# Altium integrated library Analog Devices RF IF Direct Digital Synthesis.IntLib: 76 symbols (part 9 of 9)
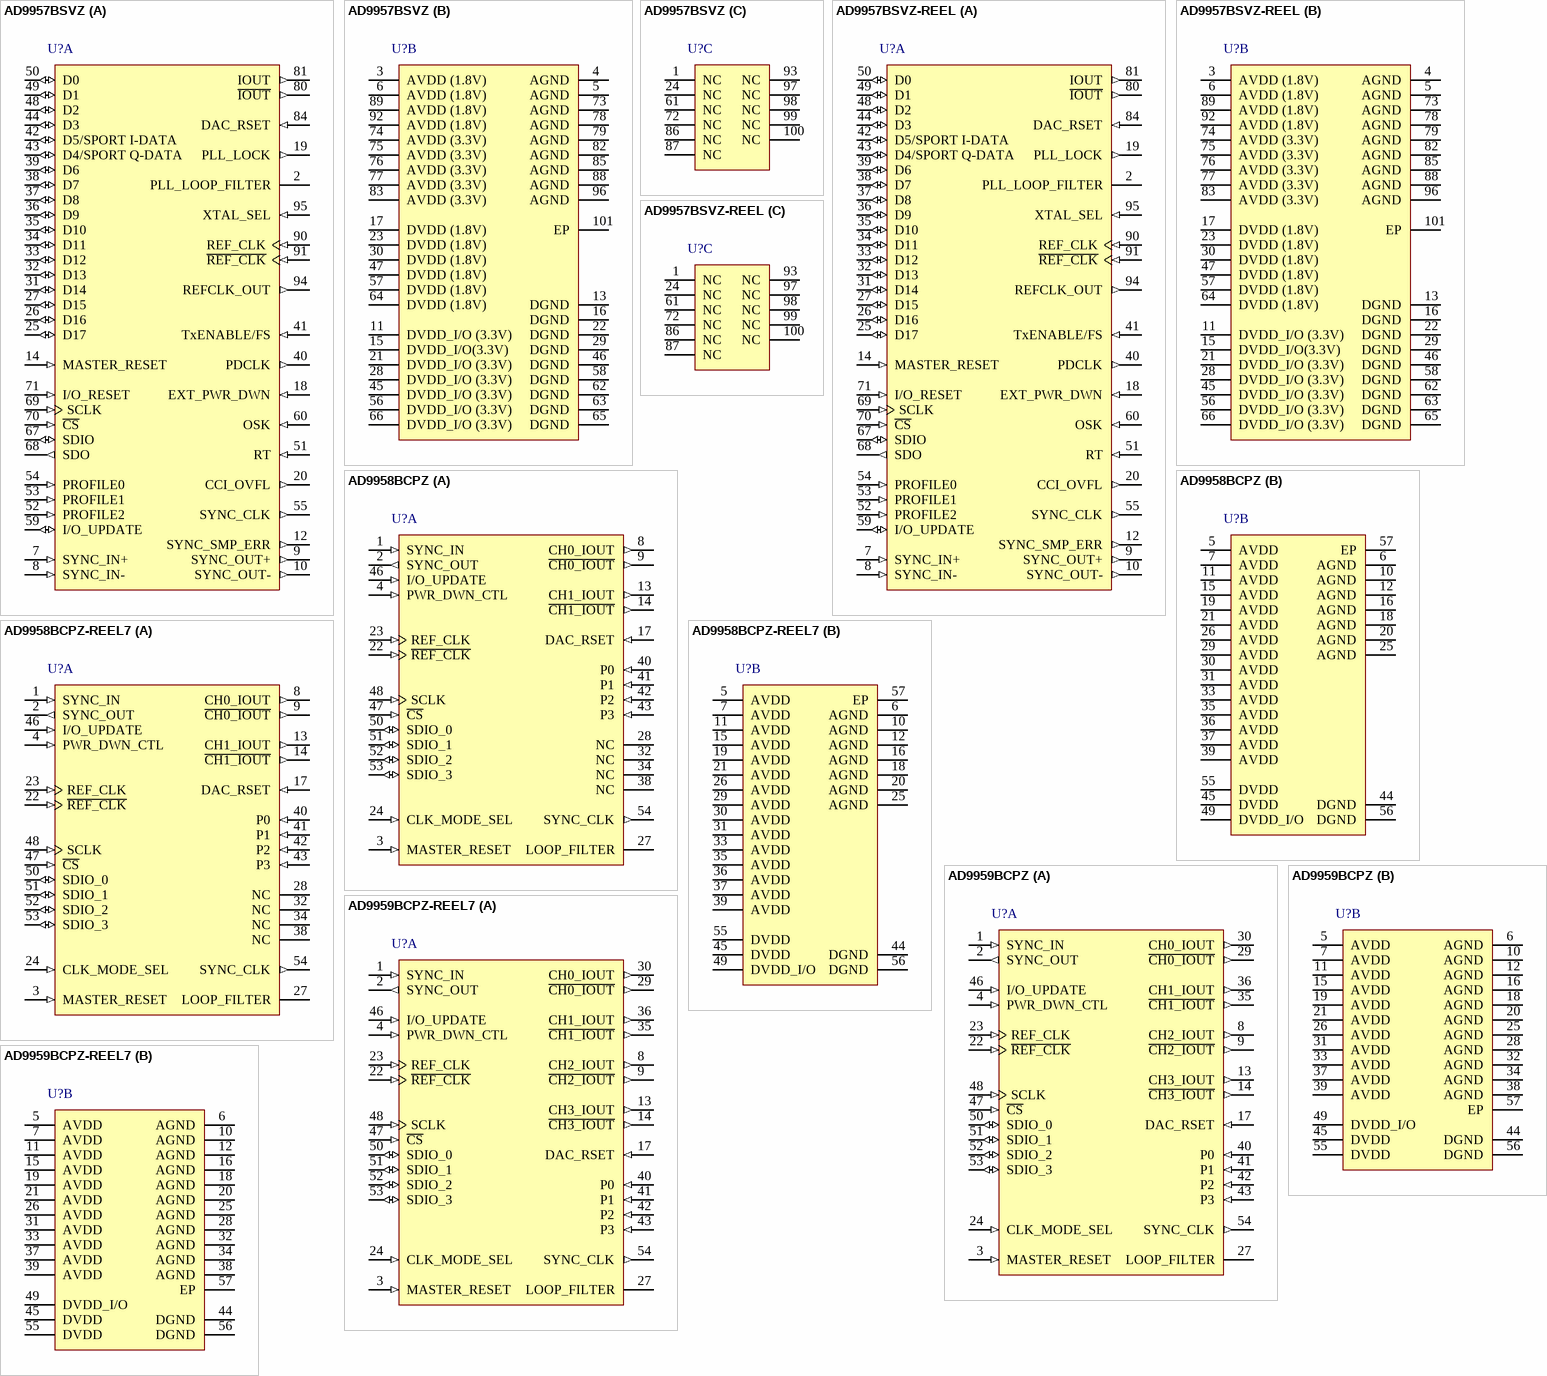
[diagram p13: symbols AD9957BSVZ to AD9959BCPZ-REEL7]

## AD9957BSVZ-REEL
designator U?
1 GSPS Quadrature Digital Upconverter with 18-Bit I/Q Data Path and 14-Bit DAC, Serial, SV-100-4, 1000 Reel, Pb-Free; Master fclk: 1GHz; Resolution (Bits): 14bit; Tuning Word Width (bits): 32bit; REFCLK Multiplier: Yes; Compliance Range (V): 500mV; FS Iout (mA nom): 20mA; I Supply total (max): 759mA; DatasheetVersion: Rev.B; PackageVersion: 043106-A; PackageReference: SV-100-4; PackageDescription: 100-Lead Thin Quad Flat Package, Exposed Pad [TQFP_EP]; I/O Interface: Serial; Code_JEDEC: MS-026-AED-HD; ComponentLink1Description: Manufacturer URL; ComponentLink1URL: www.analog.com; ComponentLink2Description: Datasheet; ComponentLink2URL: http://www.analog.com/static/imported-files/data_sheets/AD9957.pdf; ComponentLink3Description: Package Specification; ComponentLink3URL: http://www.analog.com/static/imported-files/packages/PKG_PDF/TQFP_ED(SV)/SV_100_4.pdf
footprint ADI-SV-100-4_N (Thin QFP, 100-Leads, Body 14x14mm, Pitch 0.5mm, Thermal Pad 5x5mm, IPC Medium Density)
footprint ADI-SV-100-4_L (Thin QFP, 100-Leads, Body 14x14mm, Pitch 0.5mm, Thermal Pad 5x5mm, IPC High Density)
footprint ADI-SV-100-4_M (Thin QFP, 100-Leads, Body 14x14mm, Pitch 0.5mm, Thermal Pad 5x5mm, IPC Low Density)
part A pins: 2 PLL_LOOP_FILTER "PLL-Loop Filter Compensation. See External PLL Loop Filter Components section.", 7 SYNC_IN+ (in) "Synchronization Signal, Digital Input (Rising Edge Active). Synchronization signal from external master to synchronize internal subclocks. [see datasheet]", 8 SYNC_IN- (in) "Synchronization Signal, Digital Input (Falling Edge Active). Synchronization signal from external master to synchronize internal subclocks. [see datasheet]", 9 SYNC_OUT+ (out) "Synchronization Signal, Digital Output (Rising Edge Active). Synchronization signal from internal device subclocks to synchronize external slave devices. [see datasheet]", 10 SYNC_OUT- (out) "Synchronization Signal, Digital Output (Falling Edge Active). Synchronization signal from internal device subclocks to synchronize external slave devices. [see datasheet]", 12 SYNC_SMP_ERR (out) "Synchronization Sample Error, Digital Output (Active High). A high on this pin indicates that the AD9957 did not receive a valid sync signal on SYNC_IN+/SYNC_IN-. [see datasheet]", 14 MASTER_RESET (in) "Master Reset, Digital Input (Active High). This pin clears all memory elements and sets registers to default values.", 18 EXT_PWR_DWN (in) "External Power-Down, Digital Input (Active High). A high level on this pin initiates the currently programmed power-down mode. See the Power-Down Control section for  further details. [see datasheet]", 19 PLL_LOCK (out) "PLL Lock, Digital Output (Active High). A high on this pin indicates that the clock multiplier PLL has acquired lock to the reference clock input.", 20 CCI_OVFL (out) "CCI Overflow Digital Output, Active High. A high on this pin indicates a CCI filter overflow. This pin remains high until the CCI overflow condition is cleared.", 25 D17 (io) "Parallel Data Input Bus (Active High). These pins provide the interleaved, 18-bit, digital, I and Q vectors for the modulator to upconvert. [see datasheet]", 26 D16 (io) "Parallel Data Input Bus (Active High). These pins provide the interleaved, 18-bit, digital, I and Q vectors for the modulator to upconvert. [see datasheet]", 27 D15 (io) "Parallel Data Input Bus (Active High). These pins provide the interleaved, 18-bit, digital, I and Q vectors for the modulator to upconvert. [see datasheet]", 31 D14 (io) "Parallel Data Input Bus (Active High). These pins provide the interleaved, 18-bit, digital, I and Q vectors for the modulator to upconvert. [see datasheet]", 32 D13 (io) "Parallel Data Input Bus (Active High). These pins provide the interleaved, 18-bit, digital, I and Q vectors for the modulator to upconvert. [see datasheet]", 33 D12 (io) "Parallel Data Input Bus (Active High). These pins provide the interleaved, 18-bit, digital, I and Q vectors for the modulator to upconvert. [see datasheet]", 34 D11 (io) "Parallel Data Input Bus (Active High). These pins provide the interleaved, 18-bit, digital, I and Q vectors for the modulator to upconvert. [see datasheet]", 35 D10 (io) "Parallel Data Input Bus (Active High). These pins provide the interleaved, 18-bit, digital, I and Q vectors for the modulator to upconvert. [see datasheet]", 36 D9 (io) "Parallel Data Input Bus (Active High). These pins provide the interleaved, 18-bit, digital, I and Q vectors for the modulator to upconvert. [see datasheet]", 37 D8 (io) "Parallel Data Input Bus (Active High). These pins provide the interleaved, 18-bit, digital, I and Q vectors for the modulator to upconvert. [see datasheet]", 38 D7 (io) "Parallel Data Input Bus (Active High). These pins provide the interleaved, 18-bit, digital, I and Q vectors for the modulator to upconvert. [see datasheet]", 39 D6 (io) "Parallel Data Input Bus (Active High). These pins provide the interleaved, 18-bit, digital, I and Q vectors for the modulator to upconvert. [see datasheet]", 40 PDCLK (out) "Parallel Data Clock, Digital Output (Clock). See the Signal Processing section for details.", 41 TxENABLE/FS (in) "Transmit Enable, Digital Input (Active High). See the Signal Processing section for details.FS Input. In Blackfin interface mode, this pin serves as the FS input to receive the RFS output signal from the Blackfin.", 42 D5/SPORT I-DATA (io) "Parallel Data Input Bus (Active High). These pins provide the interleaved, 18-bit, digital, I and Q vectors for the modulator to upconvert. [see datasheet]", 43 D4/SPORT Q-DATA (io) "Parallel Data Input Bus (Active High). These pins provide the interleaved, 18-bit, digital, I and Q vectors for the modulator to upconvert. [see datasheet]", 44 D3 (io) "Parallel Data Input Bus (Active High). These pins provide the interleaved, 18-bit, digital, I and Q vectors for the modulator to upconvert. [see datasheet]", 48 D2 (io) "Parallel Data Input Bus (Active High). These pins provide the interleaved, 18-bit, digital, I and Q vectors for the modulator to upconvert. [see datasheet]", 49 D1 (io) "Parallel Data Input Bus (Active High). These pins provide the interleaved, 18-bit, digital, I and Q vectors for the modulator to upconvert. [see datasheet]", 50 D0 (io) "Parallel Data Input Bus (Active High). These pins provide the interleaved, 18-bit, digital, I and Q vectors for the modulator to upconvert. [see datasheet]", 51 RT (in) "RAM Trigger, Digital Input (Active High). This pin provides control for the RAM amplitude scaling function. When this function is engaged, a high sweeps the amplitude from the beginning RAM address to the end. [see datasheet]", 52 PROFILE2 (in) "Profile Select Pins, Digital Inputs (Active High). These pins select one of eight phase/frequency profiles for the DDS core (single tone or carrier tone). [see datasheet]", 53 PROFILE1 (in) "Profile Select Pins, Digital Inputs (Active High). These pins select one of eight phase/frequency profiles for the DDS core (single tone or carrier tone). [see datasheet]", 54 PROFILE0 (in) "Profile Select Pins, Digital Inputs (Active High). These pins select one of eight phase/frequency profiles for the DDS core (single tone or carrier tone). [see datasheet]", 55 SYNC_CLK (out) "Output System Clock/4, Digital Output (Clock). The I/O_UPDATE and PROFILE<2:0> pins should be set up to the rising edge of this signal.", 59 I/O_UPDATE (io) "Input/Output Update; Digital Input Or Output (Active High) Depending on the Internal I/O Update Active Bit. [see datasheet]", 60 OSK (in) "Output Shift Keying, Digital Input (Active High). When using OSK (manual or automatic), this pin controls the OSK function. See the Output Shift Keying (OSK) section of the data sheet for details. [see datasheet]", 67 SDIO (io) "Serial Data Input/Output, Digital Input/Output (Active High). This pin can be either unidirectional or bidirectional (default), depending on configuration settings. [see datasheet]", 68 SDO (out) "Serial Data Output, Digital Output (Active High). This pin is only active in unidirectional serial data mode. In this mode, it functions as the output. [see datasheet]", 69 SCLK (in) "Serial Data Clock. Digital clock (rising edge on write, falling edge on read). This pin provides the serial data clock for the control data path. [see datasheet]", 70 ~{CS} (in) "Chip Select, Digital Input (Active Low). Bringing this pin low enables the AD9957 to detect serial clock rising/falling edges. [see datasheet]", 71 I/O_RESET (in) "Input/Output Reset, Digital Input (Active High). Rather than resetting the entire device during a failed communication cycle, when brought high, this pin resets the state machine of the serial port controller and clears any I/O buffers that have been wri", 80 ~{IOUT} (out) "Open-Source DAC Complementary Output Source. Analog output, current mode. Connect through 50 ? to AGND.", 81 IOUT (out) "Open-Source DAC Output Source. Analog output, current mode. Connect through 50 ? to AGND.", 84 DAC_RSET (in) "Analog Reference Pin. This pin programs the DAC output full-scale reference current. Attach a 10 k? resistor to AGND.", 90 REF_CLK (in) "Reference Clock Input. Analog input. See the REFCLK Overview section for more details.", 91 ~{REF_CLK} (in) "Complementary Reference Clock Input. Analog input. See the REFCLK Overview section for more details.", 94 REFCLK_OUT (out) "Reference Clock Output. Analog output. See the REFCLK Overview section for more details.", 95 XTAL_SEL (in) "Crystal Select (1.8 V Logic). Analog input (active high). Driving the XTAL_SEL pin high enables the internal oscillator to be used with a crystal resonator. If unused, connect it to AGND."
part B pins: 3 AVDD (1.8V) (power) "Analog Core VDD. 1.8 V analog supplies.", 4 AGND (power) "Analog Ground.", 5 AGND (power) "Analog Ground.", 6 AVDD (1.8V) (power) "Analog Core VDD. 1.8 V analog supplies.", 11 DVDD_I/O (3.3V) (power) "Digital Input/Output VDD. 3.3 V digital supplies.", 13 DGND (power) "Digital Ground.", 15 DVDD_I/O(3.3V) (power) "Digital Input/Output VDD. 3.3 V digital supplies.", 16 DGND (power) "Digital Ground.", 17 DVDD (1.8V) (power) "Digital Core VDD. 1.8 V digital supplies.", 21 DVDD_I/O (3.3V) (power) "Digital Input/Output VDD. 3.3 V digital supplies.", 22 DGND (power) "Digital Ground.", 23 DVDD (1.8V) (power) "Digital Core VDD. 1.8 V digital supplies.", 28 DVDD_I/O (3.3V) (power) "Digital Input/Output VDD. 3.3 V digital supplies.", 29 DGND (power) "Digital Ground.", 30 DVDD (1.8V) (power) "Digital Core VDD. 1.8 V digital supplies.", 45 DVDD_I/O (3.3V) (power) "Digital Input/Output VDD. 3.3 V digital supplies.", 46 DGND (power) "Digital Ground.", 47 DVDD (1.8V) (power) "Digital Core VDD. 1.8 V digital supplies.", 56 DVDD_I/O (3.3V) (power) "Digital Input/Output VDD. 3.3 V digital supplies.", 57 DVDD (1.8V) (power) "Digital Core VDD. 1.8 V digital supplies.", 58 DGND (power) "Digital Ground.", 62 DGND (power) "Digital Ground.", 63 DGND (power) "Digital Ground.", 64 DVDD (1.8V) (power) "Digital Core VDD. 1.8 V digital supplies.", 65 DGND (power) "Digital Ground.", 66 DVDD_I/O (3.3V) (power) "Digital Input/Output VDD. 3.3 V digital supplies.", 73 AGND (power) "Analog Ground.", 74 AVDD (3.3V) (power) "Analog DAC VDD. 3.3 V analog supplies.", 75 AVDD (3.3V) (power) "Analog DAC VDD. 3.3 V analog supplies.", 76 AVDD (3.3V) (power) "Analog DAC VDD. 3.3 V analog supplies.", 77 AVDD (3.3V) (power) "Analog DAC VDD. 3.3 V analog supplies.", 78 AGND (power) "Analog Ground.", 79 AGND (power) "Analog Ground.", 82 AGND (power) "Analog Ground.", 83 AVDD (3.3V) (power) "Analog DAC VDD. 3.3 V analog supplies.", 85 AGND (power) "Analog Ground.", 88 AGND (power) "Analog Ground.", 89 AVDD (1.8V) (power) "Analog Core VDD. 1.8 V analog supplies.", 92 AVDD (1.8V) (power) "Analog Core VDD. 1.8 V analog supplies.", 96 AGND (power) "Analog Ground.", 101 EP (power) "The EPAD should be soldered to ground."
part C pins: 1 NC "Not Connected. Allow device pin to float.", 24 NC "Not Connected. Allow device pin to float.", 61 NC "Not Connected. Allow device pin to float.", 72 NC "Not Connected. Allow device pin to float.", 86 NC "Not Connected. Allow device pin to float.", 87 NC "Not Connected. Allow device pin to float.", 93 NC "Not Connected. Allow device pin to float.", 97 NC "Not Connected. Allow device pin to float.", 98 NC "Not Connected. Allow device pin to float.", 99 NC "Not Connected. Allow device pin to float.", 100 NC "Not Connected. Allow device pin to float."

## AD9958BCPZ
designator U?
2-Channel, 500 MSPS DDS with 10-Bit DACs, Serial, CP-56-1, 260 Tray, Pb-Free; Master fclk: 500MHz; Resolution (Bits): 10bit; Tuning Word Width (bits): 32bit; REFCLK Multiplier: Yes; Compliance Range (V): 2.3V; FS Iout (mA nom): 10mA; I Supply total (max): 105mA; DatasheetVersion: Rev. A; PackageVersion: 112805-0; PackageReference: CP-56-1; PackageDescription: 56-Lead Lead Frame Chip Scale Package [LFCSP_VQ]; I/O Interface: Serial; Code_JEDEC: MO-220-VLLD-2; ComponentLink1Description: Manufacturer URL; ComponentLink1URL: www.analog.com; ComponentLink2Description: Datasheet; ComponentLink2URL: http://www.analog.com/static/imported-files/data_sheets/AD9958.pdf; ComponentLink3Description: Package Specification; ComponentLink3URL: http://www.analog.com/static/imported-files/packages/32698137492825CP_56_1.pdf
footprint ADI-CP-56-1_N (QFN, 56-Leads, Body 8x8mm, Pitch 0.5mm, Thermal Pad 6.1x6.1mm, IPC Medium Density)
footprint ADI-CP-56-1_L (QFN, 56-Leads, Body 8x8mm, Pitch 0.5mm, Thermal Pad 6.1x6.1mm, IPC High Density)
footprint ADI-CP-56-1_M (QFN, 56-Leads, Body 8x8mm, Pitch 0.5mm, Thermal Pad 6.1x6.1mm, IPC Low Density)
part A pins: 1 SYNC_IN (in) "Synchronizes Multiple AD9911 Devices. Connects to the SYNC_OUT pin of the master AD9911 device.", 2 SYNC_OUT (out) "Synchronizes Multiple AD9911 Devices. Connects to the SYNC_IN pin of the slave AD9911 device.", 3 MASTER_RESET (in) "Active High Reset Pin. Asserting this pin forces the internal registers to the default state shown in the Register Map section.", 4 PWR_DWN_CTL (in) "External Power-Down Control. See the Power Down Functions section for details.", 8 CH0_IOUT (out) "True DAC Output. Terminates into AVDD.", 9 ~{CH0_IOUT} (out) "Complementary DAC Output. Terminates into AVDD.", 13 CH1_IOUT (out) "True DAC Output. Terminates into AVDD.", 14 ~{CH1_IOUT} (out) "Complementary DAC Output. Terminates into AVDD.", 17 DAC_RSET (in) "Establishes the Reference Current for the DAC. A 1.91 k ohm resistor (nominal) is connected from Pin 17 to AGND.", 22 ~{REF_CLK} (in) "Complementary Reference Clock/Oscillator Input. When the REF_CLK is operated in single-ended mode, this pin should be decoupled to AVDD or AGND with a  0.1 uF capacitor.", 23 REF_CLK (in) "Reference Clock/Oscillator Input. When the REF_CLK operates in single-ended mode, Pin 23 is the input. See the Modes of Operation section for the reference clock configuration.", 24 CLK_MODE_SEL (in) "Control Pin for the Oscillator. CAUTION: Do not drive this pin beyond 1.8 V. When high (1.8 V), the oscillator is enabled to accept a crystal as the REF_CLK source. [see datasheet]", 27 LOOP_FILTER "Connects to the External Zero Compensation Network of the PLL Loop Filter. Typically, the network consists of a 0  ohm resistor in series with a 680 pF capacitor tied to AVDD.", 28 NC "No Connection. Analog Devices recommends leaving these pins floating.", 32 NC "No Connection. Analog Devices recommends leaving these pins floating.", 34 NC "No Connection.", 38 NC "No Connection.", 40 P0 (in) "These data pins are used for modulation (FSK, PSK, ASK), start/stop for the sweep accumulator, and ramping up/down the output amplitude. [see datasheet]", 41 P1 (in) "These data pins are used for modulation (FSK, PSK, ASK), start/stop for the sweep accumulator, and ramping up/down the output amplitude. [see datasheet]", 42 P2 (in) "These data pins are used for modulation (FSK, PSK, ASK), start/stop for the sweep accumulator, and ramping up/down the output amplitude. [see datasheet]", 43 P3 (in) "These data pins are used for modulation (FSK, PSK, ASK), start/stop for the sweep accumulator, and ramping up/down the output amplitude. [see datasheet]", 46 I/O_UPDATE (in) "A rising edge triggers data transfer from the I/O port buffer to active registers. I/O_UPDATE is synchronous to the SYNC_CLK (Pin 54). [see datasheet]", 47 ~{CS} (in) "The active low chip select allows multiple devices to share a common I/O bus (SPI).", 48 SCLK (in) "Data Clock for I/O Operations. Data bits are written on the rising edge of SCLK and read on the falling edge of SCLK.", 50 SDIO_0 (io) "Data pin SDIO_0 is dedicated to the I/O port only.", 51 SDIO_1 (io) "Data pins SDIO_1:3 can be used for the I/O port or to initiate a ramp up/ramp down (RU/RD) of the DAC output amplitude.", 52 SDIO_2 (io) "Data pins SDIO_1:3 can be used for the I/O port or to initiate a ramp up/ramp down (RU/RD) of the DAC output amplitude.", 53 SDIO_3 (io) "Data pins SDIO_1:3 can be used for the I/O port or to initiate a ramp up/ramp down (RU/RD) of the DAC output amplitude.", 54 SYNC_CLK (out) "The SYNC_CLK, which runs at 1/4 the system clock rate, can be disabled. I/O_UPDATE and profile changes (Pin 40 to Pin 43) are synchronous to the SYNC_CLK. [see datasheet]"
part B pins: 5 AVDD (power) "Analog Power Supply Pins (1.8 V).", 6 AGND (power) "Analog Ground Pins.", 7 AVDD (power) "Analog Power Supply Pins (1.8 V).", 10 AGND (power) "Analog Ground Pins.", 11 AVDD (power) "Analog Power Supply Pins (1.8 V).", 12 AGND (power) "Analog Ground Pins.", 15 AVDD (power) "Analog Power Supply Pins (1.8 V).", 16 AGND (power) "Analog Ground Pins.", 18 AGND (power) "Analog Ground Pins.", 19 AVDD (power) "Analog Power Supply Pins (1.8 V).", 20 AGND (power) "Analog Ground Pins.", 21 AVDD (power) "Analog Power Supply Pins (1.8 V).", 25 AGND (power) "Analog Ground Pins.", 26 AVDD (power) "Analog Power Supply Pins (1.8 V).", 29 AVDD (power) "Analog Power Supply Pins (1.8 V).", 30 AVDD (power) "Analog Power Supply Pins (1.8 V).", 31 AVDD (power) "Analog Power Supply Pins (1.8 V).", 33 AVDD (power) "Analog Power Supply Pins (1.8 V).", 35 AVDD (power) "Analog Power Supply Pins (1.8 V).", 36 AVDD (power) "Analog Power Supply Pins (1.8 V).", 37 AVDD (power) "Analog Power Supply Pins (1.8 V).", 39 AVDD (power) "Analog Power Supply Pins (1.8 V).", 44 DGND (power) "Digital Power Ground Pins.", 45 DVDD (power) "Digital Power Supply Pins (1.8 V).", 49 DVDD_I/O (power) "3.3 V Digital Power Supply for SPI Port and Digital I/O.", 55 DVDD (power) "Digital Power Supply Pins (1.8 V).", 56 DGND (power) "Digital Power Ground Pins.", 57 EP (power) "Exposed pad"

## AD9958BCPZ-REEL7
designator U?
2-Channel, 500 MSPS DDS with 10-Bit DACs, Serial, CP-56-1, 750 Reel, Pb-Free; Master fclk: 500MHz; Resolution (Bits): 10bit; Tuning Word Width (bits): 32bit; REFCLK Multiplier: Yes; Compliance Range (V): 2.3V; FS Iout (mA nom): 10mA; I Supply total (max): 105mA; DatasheetVersion: Rev. A; PackageVersion: 112805-0; PackageReference: CP-56-1; PackageDescription: 56-Lead Lead Frame Chip Scale Package [LFCSP_VQ]; I/O Interface: Serial; Code_JEDEC: MO-220-VLLD-2; ComponentLink1Description: Manufacturer URL; ComponentLink1URL: www.analog.com; ComponentLink2Description: Datasheet; ComponentLink2URL: http://www.analog.com/static/imported-files/data_sheets/AD9958.pdf; ComponentLink3Description: Package Specification; ComponentLink3URL: http://www.analog.com/static/imported-files/packages/32698137492825CP_56_1.pdf
footprint ADI-CP-56-1_N (QFN, 56-Leads, Body 8x8mm, Pitch 0.5mm, Thermal Pad 6.1x6.1mm, IPC Medium Density)
footprint ADI-CP-56-1_L (QFN, 56-Leads, Body 8x8mm, Pitch 0.5mm, Thermal Pad 6.1x6.1mm, IPC High Density)
footprint ADI-CP-56-1_M (QFN, 56-Leads, Body 8x8mm, Pitch 0.5mm, Thermal Pad 6.1x6.1mm, IPC Low Density)
part A pins: 1 SYNC_IN (in) "Synchronizes Multiple AD9911 Devices. Connects to the SYNC_OUT pin of the master AD9911 device.", 2 SYNC_OUT (out) "Synchronizes Multiple AD9911 Devices. Connects to the SYNC_IN pin of the slave AD9911 device.", 3 MASTER_RESET (in) "Active High Reset Pin. Asserting this pin forces the internal registers to the default state shown in the Register Map section.", 4 PWR_DWN_CTL (in) "External Power-Down Control. See the Power Down Functions section for details.", 8 CH0_IOUT (out) "True DAC Output. Terminates into AVDD.", 9 ~{CH0_IOUT} (out) "Complementary DAC Output. Terminates into AVDD.", 13 CH1_IOUT (out) "True DAC Output. Terminates into AVDD.", 14 ~{CH1_IOUT} (out) "Complementary DAC Output. Terminates into AVDD.", 17 DAC_RSET (in) "Establishes the Reference Current for the DAC. A 1.91 k ohm resistor (nominal) is connected from Pin 17 to AGND.", 22 ~{REF_CLK} (in) "Complementary Reference Clock/Oscillator Input. When the REF_CLK is operated in single-ended mode, this pin should be decoupled to AVDD or AGND with a  0.1 uF capacitor.", 23 REF_CLK (in) "Reference Clock/Oscillator Input. When the REF_CLK operates in single-ended mode, Pin 23 is the input. See the Modes of Operation section for the reference clock configuration.", 24 CLK_MODE_SEL (in) "Control Pin for the Oscillator. CAUTION: Do not drive this pin beyond 1.8 V. When high (1.8 V), the oscillator is enabled to accept a crystal as the REF_CLK source. [see datasheet]", 27 LOOP_FILTER "Connects to the External Zero Compensation Network of the PLL Loop Filter. Typically, the network consists of a 0  ohm resistor in series with a 680 pF capacitor tied to AVDD.", 28 NC "No Connection. Analog Devices recommends leaving these pins floating.", 32 NC "No Connection. Analog Devices recommends leaving these pins floating.", 34 NC "No Connection.", 38 NC "No Connection.", 40 P0 (in) "These data pins are used for modulation (FSK, PSK, ASK), start/stop for the sweep accumulator, and ramping up/down the output amplitude. [see datasheet]", 41 P1 (in) "These data pins are used for modulation (FSK, PSK, ASK), start/stop for the sweep accumulator, and ramping up/down the output amplitude. [see datasheet]", 42 P2 (in) "These data pins are used for modulation (FSK, PSK, ASK), start/stop for the sweep accumulator, and ramping up/down the output amplitude. [see datasheet]", 43 P3 (in) "These data pins are used for modulation (FSK, PSK, ASK), start/stop for the sweep accumulator, and ramping up/down the output amplitude. [see datasheet]", 46 I/O_UPDATE (in) "A rising edge triggers data transfer from the I/O port buffer to active registers. I/O_UPDATE is synchronous to the SYNC_CLK (Pin 54). [see datasheet]", 47 ~{CS} (in) "The active low chip select allows multiple devices to share a common I/O bus (SPI).", 48 SCLK (in) "Data Clock for I/O Operations. Data bits are written on the rising edge of SCLK and read on the falling edge of SCLK.", 50 SDIO_0 (io) "Data pin SDIO_0 is dedicated to the I/O port only.", 51 SDIO_1 (io) "Data pins SDIO_1:3 can be used for the I/O port or to initiate a ramp up/ramp down (RU/RD) of the DAC output amplitude.", 52 SDIO_2 (io) "Data pins SDIO_1:3 can be used for the I/O port or to initiate a ramp up/ramp down (RU/RD) of the DAC output amplitude.", 53 SDIO_3 (io) "Data pins SDIO_1:3 can be used for the I/O port or to initiate a ramp up/ramp down (RU/RD) of the DAC output amplitude.", 54 SYNC_CLK (out) "The SYNC_CLK, which runs at 1/4 the system clock rate, can be disabled. I/O_UPDATE and profile changes (Pin 40 to Pin 43) are synchronous to the SYNC_CLK. [see datasheet]"
part B pins: 5 AVDD (power) "Analog Power Supply Pins (1.8 V).", 6 AGND (power) "Analog Ground Pins.", 7 AVDD (power) "Analog Power Supply Pins (1.8 V).", 10 AGND (power) "Analog Ground Pins.", 11 AVDD (power) "Analog Power Supply Pins (1.8 V).", 12 AGND (power) "Analog Ground Pins.", 15 AVDD (power) "Analog Power Supply Pins (1.8 V).", 16 AGND (power) "Analog Ground Pins.", 18 AGND (power) "Analog Ground Pins.", 19 AVDD (power) "Analog Power Supply Pins (1.8 V).", 20 AGND (power) "Analog Ground Pins.", 21 AVDD (power) "Analog Power Supply Pins (1.8 V).", 25 AGND (power) "Analog Ground Pins.", 26 AVDD (power) "Analog Power Supply Pins (1.8 V).", 29 AVDD (power) "Analog Power Supply Pins (1.8 V).", 30 AVDD (power) "Analog Power Supply Pins (1.8 V).", 31 AVDD (power) "Analog Power Supply Pins (1.8 V).", 33 AVDD (power) "Analog Power Supply Pins (1.8 V).", 35 AVDD (power) "Analog Power Supply Pins (1.8 V).", 36 AVDD (power) "Analog Power Supply Pins (1.8 V).", 37 AVDD (power) "Analog Power Supply Pins (1.8 V).", 39 AVDD (power) "Analog Power Supply Pins (1.8 V).", 44 DGND (power) "Digital Power Ground Pins.", 45 DVDD (power) "Digital Power Supply Pins (1.8 V).", 49 DVDD_I/O (power) "3.3 V Digital Power Supply for SPI Port and Digital I/O.", 55 DVDD (power) "Digital Power Supply Pins (1.8 V).", 56 DGND (power) "Digital Power Ground Pins.", 57 EP (power) "Exposed pad"

## AD9959BCPZ
designator U?
4-Channel, 500 MSPS DDS with 10-Bit DACs, Serial, CP-56-1, 260 Tray, Pb-Free; Master fclk: 500MHz; Resolution (Bits): 10bit; Tuning Word Width (bits): 32bit; REFCLK Multiplier: Yes; Compliance Range (V): 2.3V; FS Iout (mA nom): 10mA; I Supply total (max): 180mA; DatasheetVersion: Rev. B; PackageVersion: 112805-0; PackageReference: CP-56-1; PackageDescription: 56-Lead Lead Frame Chip Scale Package [LFCSP_VQ]; I/O Interface: Serial; Code_JEDEC: MO-220-VLLD-2; ComponentLink1Description: Manufacturer URL; ComponentLink1URL: www.analog.com; ComponentLink2Description: Datasheet; ComponentLink2URL: http://www.analog.com/static/imported-files/data_sheets/AD9959.pdf; ComponentLink3Description: Package Specification; ComponentLink3URL: http://www.analog.com/static/imported-files/packages/32698137492825CP_56_1.pdf
footprint ADI-CP-56-1_N (QFN, 56-Leads, Body 8x8mm, Pitch 0.5mm, Thermal Pad 6.1x6.1mm, IPC Medium Density)
footprint ADI-CP-56-1_L (QFN, 56-Leads, Body 8x8mm, Pitch 0.5mm, Thermal Pad 6.1x6.1mm, IPC High Density)
footprint ADI-CP-56-1_M (QFN, 56-Leads, Body 8x8mm, Pitch 0.5mm, Thermal Pad 6.1x6.1mm, IPC Low Density)
part A pins: 1 SYNC_IN (in) "Used to Synchronize Multiple AD9959 Devices. Connects to the SYNC_OUT pin of the master AD9959 device.", 2 SYNC_OUT (out) "Used to Synchronize Multiple AD9959 Devices. Connects to the SYNC_IN pin of the slave AD9959 devices.", 3 MASTER_RESET (in) "Active High Reset Pin. Asserting the MASTER_RESET pin forces the AD9959 internal registers to their default state, as described in the Register Maps and Bit Descriptions section.", 4 PWR_DWN_CTL (in) "External Power-Down Control.", 8 CH2_IOUT (out) "True DAC Output. Terminates into AVDD.", 9 ~{CH2_IOUT} (out) "Complementary DAC Output. Terminates into AVDD.", 13 CH3_IOUT (out) "True DAC Output. Terminates into AVDD.", 14 ~{CH3_IOUT} (out) "Complementary DAC Output. Terminates into AVDD.", 17 DAC_RSET (in) "Establishes the Reference Current for All DACs. A 1.91 k ohm resistor (nominal) is connected from Pin 17 to AGND.", 22 ~{REF_CLK} (in) "Complementary Reference Clock/Oscillator Input. When the REF_CLK is operated in single-ended mode, this pin should be decoupled to AVDD or AGND with a  0.1 uF capacitor", 23 REF_CLK (in) "Reference Clock/Oscillator Input. When the REF_CLK is operated in single-ended mode, this is the input. See the Modes of Operation section for the reference clock configuration.", 24 CLK_MODE_SEL (in) "Control Pin for the Oscillator Section. Caution: Do not drive this pin beyond 1.8 V. When high (1.8 V), the oscillator section is enabled to accept a crystal as the REF_CLK source. [see datasheet]", 27 LOOP_FILTER "Connects to the external zero compensation network of the PLL loop filter. Typically, the network consists of a 0  ohm resistor in series with a 680 pF capacitor tied to AVDD.", 29 ~{CH0_IOUT} (out) "Complementary DAC Output. Terminates into AVDD.", 30 CH0_IOUT (out) "True DAC Output. Terminates into AVDD.", 35 ~{CH1_IOUT} (out) "Complementary DAC Output. Terminates into AVDD.", 36 CH1_IOUT (out) "True DAC Output. Terminates into AVDD.", 40 P0 (in) "Data pins used for modulation (FSK, PSK, ASK), to start/stop the sweep accumulators or used to ramp up/ramp down the output amplitude. [see datasheet]", 41 P1 (in) "Data pins used for modulation (FSK, PSK, ASK), to start/stop the sweep accumulators or used to ramp up/ramp down the output amplitude. [see datasheet]", 42 P2 (in) "Data pins used for modulation (FSK, PSK, ASK), to start/stop the sweep accumulators or used to ramp up/ramp down the output amplitude. [see datasheet]", 43 P3 (in) "Data pins used for modulation (FSK, PSK, ASK), to start/stop the sweep accumulators or used to ramp up/ramp down the output amplitude. [see datasheet]", 46 I/O_UPDATE (in) "A rising edge transfers data from the serial I/O port buffer to active registers. I/O_UPDATE is synchronous to the SYNC_CLK (Pin 54). [see datasheet]", 47 ~{CS} (in) "Active Low Chip Select. Allows multiple devices to share a common I/O bus (SPI).", 48 SCLK (in) "Serial Data Clock for I/O Operations. Data bits are written on the rising edge of SCLK and read on the falling edge of SCLK.", 50 SDIO_0 (io) "Data Pin SDIO_0 is dedicated to the serial port I/O only", 51 SDIO_1 (io) "Data Pin SDIO_1 and Data Pin SDIO_2 can be used for the serial I/O port or used to initiate a ramp-up/ramp-down (RU/RD) of the DAC output amplitude.", 52 SDIO_2 (io) "Data Pin SDIO_1 and Data Pin SDIO_2 can be used for the serial I/O port or used to initiate a ramp-up/ramp-down (RU/RD) of the DAC output amplitude.", 53 SDIO_3 (io) "Data Pin SDIO_3 can be used for the serial I/O port or to initiate a ramp-up/ramp-down (RU/RD) of the DAC output amplitude. In single-bit or 2-bit modes, SDIO_3 is used for SYNC_I/O. [see datasheet]", 54 SYNC_CLK (out) "The SYNC_CLK runs at one-fourth the system clock rate; it can be disabled. I/O_UPDATE or data (Pin 40 to Pin 43) is synchronous to the SYNC_CLK. [see datasheet]"
part B pins: 5 AVDD (power) "Analog Power Supply Pins (1.8 V).", 6 AGND (power) "Analog Ground Pins", 7 AVDD (power) "Analog Power Supply Pins (1.8 V).", 10 AGND (power) "Analog Ground Pins", 11 AVDD (power) "Analog Power Supply Pins (1.8 V).", 12 AGND (power) "Analog Ground Pins", 15 AVDD (power) "Analog Power Supply Pins (1.8 V).", 16 AGND (power) "Analog Ground Pins", 18 AGND (power) "Analog Ground Pins", 19 AVDD (power) "Analog Power Supply Pins (1.8 V).", 20 AGND (power) "Analog Ground Pins", 21 AVDD (power) "Analog Power Supply Pins (1.8 V).", 25 AGND (power) "Analog Ground Pins", 26 AVDD (power) "Analog Power Supply Pins (1.8 V).", 28 AGND (power) "Analog Ground Pins", 31 AVDD (power) "Analog Power Supply Pins (1.8 V).", 32 AGND (power) "Analog Ground Pins", 33 AVDD (power) "Analog Power Supply Pins (1.8 V).", 34 AGND (power) "Analog Ground Pins", 37 AVDD (power) "Analog Power Supply Pins (1.8 V).", 38 AGND (power) "Analog Ground Pins", 39 AVDD (power) "Analog Power Supply Pins (1.8 V).", 44 DGND (power) "Digital Power Ground Pins.", 45 DVDD (power) "Digital Power Supply Pins (1.8 V).", 49 DVDD_I/O (power) "3.3 V Digital Power Supply for SPI Port and Digital I/O.", 55 DVDD (power) "Digital Power Supply Pins (1.8 V).", 56 DGND (power) "Digital Power Ground Pins.", 57 EP (power) "Exposed pad"

## AD9959BCPZ-REEL7
designator U?
4-Channel, 500 MSPS DDS with 10-Bit DACs, Serial, CP-56-1, 750 Reel, Pb-Free; Master fclk: 500MHz; Resolution (Bits): 10bit; Tuning Word Width (bits): 32bit; REFCLK Multiplier: Yes; Compliance Range (V): 2.3V; FS Iout (mA nom): 10mA; I Supply total (max): 180mA; DatasheetVersion: Rev. B; PackageVersion: 112805-0; PackageReference: CP-56-1; PackageDescription: 56-Lead Lead Frame Chip Scale Package [LFCSP_VQ]; I/O Interface: Serial; Code_JEDEC: MO-220-VLLD-2; ComponentLink1Description: Manufacturer URL; ComponentLink1URL: www.analog.com; ComponentLink2Description: Datasheet; ComponentLink2URL: http://www.analog.com/static/imported-files/data_sheets/AD9959.pdf; ComponentLink3Description: Package Specification; ComponentLink3URL: http://www.analog.com/static/imported-files/packages/32698137492825CP_56_1.pdf
footprint ADI-CP-56-1_N (QFN, 56-Leads, Body 8x8mm, Pitch 0.5mm, Thermal Pad 6.1x6.1mm, IPC Medium Density)
footprint ADI-CP-56-1_L (QFN, 56-Leads, Body 8x8mm, Pitch 0.5mm, Thermal Pad 6.1x6.1mm, IPC High Density)
footprint ADI-CP-56-1_M (QFN, 56-Leads, Body 8x8mm, Pitch 0.5mm, Thermal Pad 6.1x6.1mm, IPC Low Density)
part A pins: 1 SYNC_IN (in) "Used to Synchronize Multiple AD9959 Devices. Connects to the SYNC_OUT pin of the master AD9959 device.", 2 SYNC_OUT (out) "Used to Synchronize Multiple AD9959 Devices. Connects to the SYNC_IN pin of the slave AD9959 devices.", 3 MASTER_RESET (in) "Active High Reset Pin. Asserting the MASTER_RESET pin forces the AD9959 internal registers to their default state, as described in the Register Maps and Bit Descriptions section.", 4 PWR_DWN_CTL (in) "External Power-Down Control.", 8 CH2_IOUT (out) "True DAC Output. Terminates into AVDD.", 9 ~{CH2_IOUT} (out) "Complementary DAC Output. Terminates into AVDD.", 13 CH3_IOUT (out) "True DAC Output. Terminates into AVDD.", 14 ~{CH3_IOUT} (out) "Complementary DAC Output. Terminates into AVDD.", 17 DAC_RSET (in) "Establishes the Reference Current for All DACs. A 1.91 k ohm resistor (nominal) is connected from Pin 17 to AGND.", 22 ~{REF_CLK} (in) "Complementary Reference Clock/Oscillator Input. When the REF_CLK is operated in single-ended mode, this pin should be decoupled to AVDD or AGND with a  0.1 uF capacitor", 23 REF_CLK (in) "Reference Clock/Oscillator Input. When the REF_CLK is operated in single-ended mode, this is the input. See the Modes of Operation section for the reference clock configuration.", 24 CLK_MODE_SEL (in) "Control Pin for the Oscillator Section. Caution: Do not drive this pin beyond 1.8 V. When high (1.8 V), the oscillator section is enabled to accept a crystal as the REF_CLK source. [see datasheet]", 27 LOOP_FILTER "Connects to the external zero compensation network of the PLL loop filter. Typically, the network consists of a 0  ohm resistor in series with a 680 pF capacitor tied to AVDD.", 29 ~{CH0_IOUT} (out) "Complementary DAC Output. Terminates into AVDD.", 30 CH0_IOUT (out) "True DAC Output. Terminates into AVDD.", 35 ~{CH1_IOUT} (out) "Complementary DAC Output. Terminates into AVDD.", 36 CH1_IOUT (out) "True DAC Output. Terminates into AVDD.", 40 P0 (in) "Data pins used for modulation (FSK, PSK, ASK), to start/stop the sweep accumulators or used to ramp up/ramp down the output amplitude. [see datasheet]", 41 P1 (in) "Data pins used for modulation (FSK, PSK, ASK), to start/stop the sweep accumulators or used to ramp up/ramp down the output amplitude. [see datasheet]", 42 P2 (in) "Data pins used for modulation (FSK, PSK, ASK), to start/stop the sweep accumulators or used to ramp up/ramp down the output amplitude. [see datasheet]", 43 P3 (in) "Data pins used for modulation (FSK, PSK, ASK), to start/stop the sweep accumulators or used to ramp up/ramp down the output amplitude. [see datasheet]", 46 I/O_UPDATE (in) "A rising edge transfers data from the serial I/O port buffer to active registers. I/O_UPDATE is synchronous to the SYNC_CLK (Pin 54). [see datasheet]", 47 ~{CS} (in) "Active Low Chip Select. Allows multiple devices to share a common I/O bus (SPI).", 48 SCLK (in) "Serial Data Clock for I/O Operations. Data bits are written on the rising edge of SCLK and read on the falling edge of SCLK.", 50 SDIO_0 (io) "Data Pin SDIO_0 is dedicated to the serial port I/O only", 51 SDIO_1 (io) "Data Pin SDIO_1 and Data Pin SDIO_2 can be used for the serial I/O port or used to initiate a ramp-up/ramp-down (RU/RD) of the DAC output amplitude.", 52 SDIO_2 (io) "Data Pin SDIO_1 and Data Pin SDIO_2 can be used for the serial I/O port or used to initiate a ramp-up/ramp-down (RU/RD) of the DAC output amplitude.", 53 SDIO_3 (io) "Data Pin SDIO_3 can be used for the serial I/O port or to initiate a ramp-up/ramp-down (RU/RD) of the DAC output amplitude. In single-bit or 2-bit modes, SDIO_3 is used for SYNC_I/O. [see datasheet]", 54 SYNC_CLK (out) "The SYNC_CLK runs at one-fourth the system clock rate; it can be disabled. I/O_UPDATE or data (Pin 40 to Pin 43) is synchronous to the SYNC_CLK. [see datasheet]"
part B pins: 5 AVDD (power) "Analog Power Supply Pins (1.8 V).", 6 AGND (power) "Analog Ground Pins", 7 AVDD (power) "Analog Power Supply Pins (1.8 V).", 10 AGND (power) "Analog Ground Pins", 11 AVDD (power) "Analog Power Supply Pins (1.8 V).", 12 AGND (power) "Analog Ground Pins", 15 AVDD (power) "Analog Power Supply Pins (1.8 V).", 16 AGND (power) "Analog Ground Pins", 18 AGND (power) "Analog Ground Pins", 19 AVDD (power) "Analog Power Supply Pins (1.8 V).", 20 AGND (power) "Analog Ground Pins", 21 AVDD (power) "Analog Power Supply Pins (1.8 V).", 25 AGND (power) "Analog Ground Pins", 26 AVDD (power) "Analog Power Supply Pins (1.8 V).", 28 AGND (power) "Analog Ground Pins", 31 AVDD (power) "Analog Power Supply Pins (1.8 V).", 32 AGND (power) "Analog Ground Pins", 33 AVDD (power) "Analog Power Supply Pins (1.8 V).", 34 AGND (power) "Analog Ground Pins", 37 AVDD (power) "Analog Power Supply Pins (1.8 V).", 38 AGND (power) "Analog Ground Pins", 39 AVDD (power) "Analog Power Supply Pins (1.8 V).", 44 DGND (power) "Digital Power Ground Pins.", 45 DVDD (power) "Digital Power Supply Pins (1.8 V).", 49 DVDD_I/O (power) "3.3 V Digital Power Supply for SPI Port and Digital I/O.", 55 DVDD (power) "Digital Power Supply Pins (1.8 V).", 56 DGND (power) "Digital Power Ground Pins.", 57 EP (power) "Exposed pad"